# Altium integrated library National Semiconductor Switcher.IntLib: 2226 symbols (part 34 of 59)
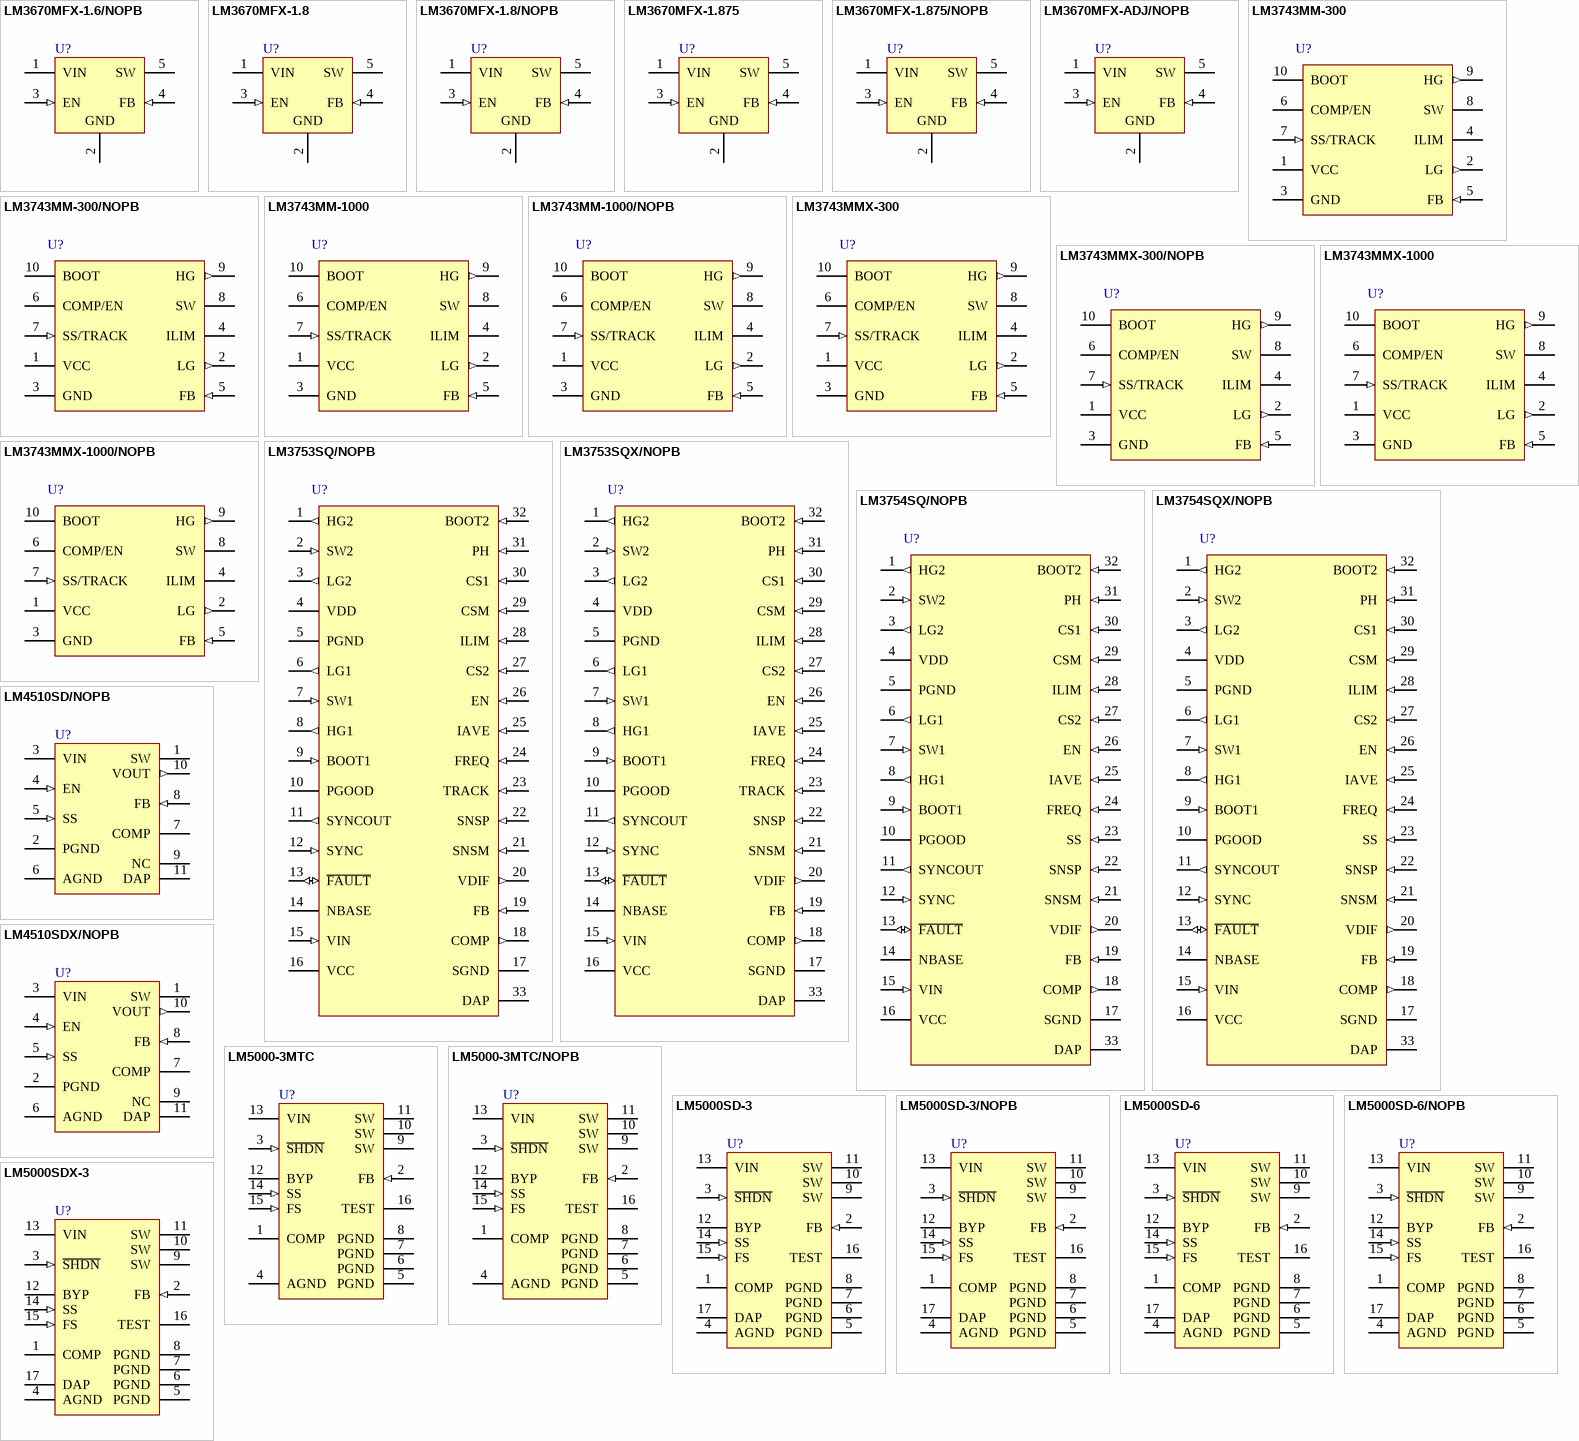
[diagram p102: symbols LM3670MFX-1.6/NOPB to LM5000SDX-3]

## LM3754SQ/NOPB
designator U?
Scalable 2-Phase Synchronous Buck Controllers with Integrated FET Drivers and Linear Regulator Controller, 32-pin LLP, Pb-Free; PartNumber: LM3754SQ/NOPB; Manufacturer: National Semiconductor; PackageTopMarking: NS*UZXYTT*LM3754; PowerWise: Y; CompType: Switcher; DatasheetVersion: Dec-2009; PackageVersion: revB, Oct-2009; PackageReference: SQA32A; PackageDescription: LLP, Quad, 5 x 5 x 0.8mm, 32 Lead, 0.5mm Pitch, No Pullback 3.1 x 3.1 Exposed Pad; RoHS: Y; PinCount: 32; High-Reliability: Y; ComponentLink1Description: Manufacturer URL; ComponentLink1URL: http://www.national.com/; ComponentLink2Description: LM3754 Datasheet; ComponentLink2URL: http://www.national.com/ds/LM/LM3754.pdf; ComponentLink3Description: LM3754 Web Page; ComponentLink3URL: http://www.national.com/pf/LM/LM3754.html; ComponentLink4Description: SQA32A Package Page; ComponentLink4URL: http://www.national.com/packaging/folders/sqa32a.html
footprint SQA32A (QFN, 32-Leads, Body 5x5mm, Pitch 0.5mm, Thermal Pad 3.2x3.2mm, NSC Recommended)
pins: 1 HG2 (out), 2 SW2 (in), 3 LG2 (out), 4 VDD (power), 5 PGND (power), 6 LG1 (out), 7 SW1 (in), 8 HG1 (out), 9 BOOT1 (in), 10 PGOOD (oc), 11 SYNCOUT (out), 12 SYNC (in), 13 ~{FAULT} (io), 14 NBASE, 15 VIN (in), 16 VCC (power), 17 SGND (power), 18 COMP (out), 19 FB (in), 20 VDIF (out), 21 SNSM (in), 22 SNSP (in), 23 SS (in), 24 FREQ (in), 25 IAVE (in), 26 EN (in), 27 CS2 (in), 28 ILIM (in), 29 CSM (in), 30 CS1 (in), 31 PH (in), 32 BOOT2 (in), 33 DAP (power)

## LM3754SQX/NOPB
designator U?
Scalable 2-Phase Synchronous Buck Controllers with Integrated FET Drivers and Linear Regulator Controller, 32-pin LLP, Pb-Free; PartNumber: LM3754SQX/NOPB; Manufacturer: National Semiconductor; PackageTopMarking: NS*UZXYTT*LM3754; PowerWise: Y; CompType: Switcher; DatasheetVersion: Dec-2009; PackageVersion: revB, Oct-2009; PackageReference: SQA32A; PackageDescription: LLP, Quad, 5 x 5 x 0.8mm, 32 Lead, 0.5mm Pitch, No Pullback 3.1 x 3.1 Exposed Pad; RoHS: Y; PinCount: 32; High-Reliability: Y; ComponentLink1Description: Manufacturer URL; ComponentLink1URL: http://www.national.com/; ComponentLink2Description: LM3754 Datasheet; ComponentLink2URL: http://www.national.com/ds/LM/LM3754.pdf; ComponentLink3Description: LM3754 Web Page; ComponentLink3URL: http://www.national.com/pf/LM/LM3754.html; ComponentLink4Description: SQA32A Package Page; ComponentLink4URL: http://www.national.com/packaging/folders/sqa32a.html
footprint SQA32A (QFN, 32-Leads, Body 5x5mm, Pitch 0.5mm, Thermal Pad 3.2x3.2mm, NSC Recommended)
pins: 1 HG2 (out), 2 SW2 (in), 3 LG2 (out), 4 VDD (power), 5 PGND (power), 6 LG1 (out), 7 SW1 (in), 8 HG1 (out), 9 BOOT1 (in), 10 PGOOD (oc), 11 SYNCOUT (out), 12 SYNC (in), 13 ~{FAULT} (io), 14 NBASE, 15 VIN (in), 16 VCC (power), 17 SGND (power), 18 COMP (out), 19 FB (in), 20 VDIF (out), 21 SNSM (in), 22 SNSP (in), 23 SS (in), 24 FREQ (in), 25 IAVE (in), 26 EN (in), 27 CS2 (in), 28 ILIM (in), 29 CSM (in), 30 CS1 (in), 31 PH (in), 32 BOOT2 (in), 33 DAP (power)

## LM4510SD/NOPB
designator U?
Synchronous Step-Up DC/DC Converter with True Shutdown Isolation, 10-pin LLP, Pb-Free; PartNumber: LM4510SD/NOPB; Manufacturer: National Semiconductor; PackageTopMarking: ZXYTT*L4510; PowerWise: Y; CompType: Switcher; DatasheetVersion: Oct-2007; PackageVersion: revA, Oct-2003; PackageReference: SDA10A; PackageDescription: LLP, Plastic, Dual, 3 x 3 x 0.8mm Body, 10 Lead, 0.5mm Pitch, No Pullback; RoHS: Y; PinCount: 10; High-Reliability: Y; ComponentLink1Description: Manufacturer URL; ComponentLink1URL: http://www.national.com/; ComponentLink2Description: LM4510 Datasheet; ComponentLink2URL: http://www.national.com/ds/LM/LM4510.pdf; ComponentLink3Description: LM4510 Web Page; ComponentLink3URL: http://www.national.com/pf/LM/LM4510.html; ComponentLink4Description: SDA10A Package Page; ComponentLink4URL: http://www.national.com/packaging/folders/sda10a.html
footprint SDA10A (SON, 10-Leads, Body 3x3 mm, Pitch 0.5mm, NSC Recommended)
pins: 1 SW (power), 2 PGND (power), 3 VIN (power), 4 EN (in), 5 SS (in), 6 AGND (power), 7 COMP, 8 FB (in), 9 NC, 10 VOUT (out), 11 DAP (power)

## LM4510SDX/NOPB
designator U?
Synchronous Step-Up DC/DC Converter with True Shutdown Isolation, 10-pin LLP, Pb-Free; PartNumber: LM4510SDX/NOPB; Manufacturer: National Semiconductor; PackageTopMarking: ZXYTT*L4510; PowerWise: Y; CompType: Switcher; DatasheetVersion: Oct-2007; PackageVersion: revA, Oct-2003; PackageReference: SDA10A; PackageDescription: LLP, Plastic, Dual, 3 x 3 x 0.8mm Body, 10 Lead, 0.5mm Pitch, No Pullback; RoHS: Y; PinCount: 10; High-Reliability: Y; ComponentLink1Description: Manufacturer URL; ComponentLink1URL: http://www.national.com/; ComponentLink2Description: LM4510 Datasheet; ComponentLink2URL: http://www.national.com/ds/LM/LM4510.pdf; ComponentLink3Description: LM4510 Web Page; ComponentLink3URL: http://www.national.com/pf/LM/LM4510.html; ComponentLink4Description: SDA10A Package Page; ComponentLink4URL: http://www.national.com/packaging/folders/sda10a.html
footprint SDA10A (SON, 10-Leads, Body 3x3 mm, Pitch 0.5mm, NSC Recommended)
pins: 1 SW (power), 2 PGND (power), 3 VIN (power), 4 EN (in), 5 SS (in), 6 AGND (power), 7 COMP, 8 FB (in), 9 NC, 10 VOUT (out), 11 DAP (power)

## LM5000-3MTC
designator U?
High Voltage Switch Mode Regulator, 16-pin TSSOP; PartNumber: LM5000-3MTC; Manufacturer: National Semiconductor; PackageTopMarking: NSZXYTT*LM5000*3MTC; PowerWise: N; CompType: Switcher; High-Reliability: Y; DatasheetVersion: Feb-2007; PackageVersion: revD, Jun-2003; PackageReference: MTC16; PackageDescription: Molded TSSOP, Jedec, 5 x 4.4 x 0.9mm Body, 16 Lead, 0.65mm Pitch; RoHS: N; PinCount: 16; Code_JEDEC: MO-153-AB; ComponentLink1Description: Manufacturer URL; ComponentLink1URL: http://www.national.com/; ComponentLink2Description: LM5000 Datasheet; ComponentLink2URL: http://www.national.com/ds/LM/LM5000.pdf; ComponentLink3Description: LM5000 Web Page; ComponentLink3URL: http://www.national.com/pf/LM/LM5000.html; ComponentLink4Description: MTC16 Package Page; ComponentLink4URL: http://www.national.com/packaging/folders/mtc16.html
footprint MTC16_N (TSOP, 16-Leads, Body 5x4.4mm, Pitch 0.65mm, IPC Medium Density)
footprint MTC16_L (TSOP, 16-Leads, Body 5x4.4mm, Pitch 0.65mm, IPC High Density)
footprint MTC16_M (TSOP, 16-Leads, Body 5x4.4mm, Pitch 0.65mm, IPC Low Density)
pins: 1 COMP, 2 FB (in), 3 ~{SHDN} (in), 4 AGND (power), 5 PGND (power), 6 PGND (power), 7 PGND (power), 8 PGND (power), 9 SW (power), 10 SW (power), 11 SW (power), 12 BYP, 13 VIN (power), 14 SS (in), 15 FS (in), 16 TEST

## LM5000-3MTC/NOPB
designator U?
High Voltage Switch Mode Regulator, 16-pin TSSOP, Pb-Free; PartNumber: LM5000-3MTC/NOPB; Manufacturer: National Semiconductor; PackageTopMarking: NSZXYTT*LM5000*3MTC; PowerWise: N; CompType: Switcher; High-Reliability: Y; DatasheetVersion: Feb-2007; PackageVersion: revD, Jun-2003; PackageReference: MTC16; PackageDescription: Molded TSSOP, Jedec, 5 x 4.4 x 0.9mm Body, 16 Lead, 0.65mm Pitch; RoHS: Y; PinCount: 16; Code_JEDEC: MO-153-AB; ComponentLink1Description: Manufacturer URL; ComponentLink1URL: http://www.national.com/; ComponentLink2Description: LM5000 Datasheet; ComponentLink2URL: http://www.national.com/ds/LM/LM5000.pdf; ComponentLink3Description: LM5000 Web Page; ComponentLink3URL: http://www.national.com/pf/LM/LM5000.html; ComponentLink4Description: MTC16 Package Page; ComponentLink4URL: http://www.national.com/packaging/folders/mtc16.html
footprint MTC16_N (TSOP, 16-Leads, Body 5x4.4mm, Pitch 0.65mm, IPC Medium Density)
footprint MTC16_L (TSOP, 16-Leads, Body 5x4.4mm, Pitch 0.65mm, IPC High Density)
footprint MTC16_M (TSOP, 16-Leads, Body 5x4.4mm, Pitch 0.65mm, IPC Low Density)
pins: 1 COMP, 2 FB (in), 3 ~{SHDN} (in), 4 AGND (power), 5 PGND (power), 6 PGND (power), 7 PGND (power), 8 PGND (power), 9 SW (power), 10 SW (power), 11 SW (power), 12 BYP, 13 VIN (power), 14 SS (in), 15 FS (in), 16 TEST

## LM5000SD-3
designator U?
High Voltage Switch Mode Regulator, 16-pin LLP; PartNumber: LM5000SD-3; Manufacturer: National Semiconductor; PackageTopMarking: NS*UZXYTT*5000-3; PowerWise: N; CompType: Switcher; High-Reliability: Y; DatasheetVersion: Feb-2007; PackageVersion: revA, May-2003; PackageReference: SDA16A; PackageDescription: LLP, Plastic, Dual, 5 x 5 x 0.8mm Body,16 Lead, 0.5mm Pitch, No Pullback; RoHS: N; PinCount: 16; ComponentLink1Description: Manufacturer URL; ComponentLink1URL: http://www.national.com/; ComponentLink2Description: LM5000 Datasheet; ComponentLink2URL: http://www.national.com/ds/LM/LM5000.pdf; ComponentLink3Description: LM5000 Web Page; ComponentLink3URL: http://www.national.com/pf/LM/LM5000.html; ComponentLink4Description: SDA16A Package Page; ComponentLink4URL: http://www.national.com/packaging/folders/sda16a.html
footprint SDA16A (SON, 16-Leads, Body 5x5mm, Pitch 0.5mm, NSC Recommended)
pins: 1 COMP, 2 FB (in), 3 ~{SHDN} (in), 4 AGND (power), 5 PGND (power), 6 PGND (power), 7 PGND (power), 8 PGND (power), 9 SW (power), 10 SW (power), 11 SW (power), 12 BYP, 13 VIN (power), 14 SS (in), 15 FS (in), 16 TEST, 17 DAP (power)

## LM5000SD-3/NOPB
designator U?
High Voltage Switch Mode Regulator, 16-pin LLP, Pb-Free; PartNumber: LM5000SD-3/NOPB; Manufacturer: National Semiconductor; PackageTopMarking: NS*UZXYTT*5000-3; PowerWise: N; CompType: Switcher; High-Reliability: Y; DatasheetVersion: Feb-2007; PackageVersion: revA, May-2003; PackageReference: SDA16A; PackageDescription: LLP, Plastic, Dual, 5 x 5 x 0.8mm Body,16 Lead, 0.5mm Pitch, No Pullback; RoHS: Y; PinCount: 16; ComponentLink1Description: Manufacturer URL; ComponentLink1URL: http://www.national.com/; ComponentLink2Description: LM5000 Datasheet; ComponentLink2URL: http://www.national.com/ds/LM/LM5000.pdf; ComponentLink3Description: LM5000 Web Page; ComponentLink3URL: http://www.national.com/pf/LM/LM5000.html; ComponentLink4Description: SDA16A Package Page; ComponentLink4URL: http://www.national.com/packaging/folders/sda16a.html
footprint SDA16A (SON, 16-Leads, Body 5x5mm, Pitch 0.5mm, NSC Recommended)
pins: 1 COMP, 2 FB (in), 3 ~{SHDN} (in), 4 AGND (power), 5 PGND (power), 6 PGND (power), 7 PGND (power), 8 PGND (power), 9 SW (power), 10 SW (power), 11 SW (power), 12 BYP, 13 VIN (power), 14 SS (in), 15 FS (in), 16 TEST, 17 DAP (power)

## LM5000SD-6
designator U?
High Voltage Switch Mode Regulator, 16-pin LLP; PartNumber: LM5000SD-6; Manufacturer: National Semiconductor; PackageTopMarking: NS*UZXYTT*5000-6; PowerWise: N; CompType: Switcher; High-Reliability: Y; DatasheetVersion: Feb-2007; PackageVersion: revA, May-2003; PackageReference: SDA16A; PackageDescription: LLP, Plastic, Dual, 5 x 5 x 0.8mm Body,16 Lead, 0.5mm Pitch, No Pullback; RoHS: N; PinCount: 16; ComponentLink1Description: Manufacturer URL; ComponentLink1URL: http://www.national.com/; ComponentLink2Description: LM5000 Datasheet; ComponentLink2URL: http://www.national.com/ds/LM/LM5000.pdf; ComponentLink3Description: LM5000 Web Page; ComponentLink3URL: http://www.national.com/pf/LM/LM5000.html; ComponentLink4Description: SDA16A Package Page; ComponentLink4URL: http://www.national.com/packaging/folders/sda16a.html
footprint SDA16A (SON, 16-Leads, Body 5x5mm, Pitch 0.5mm, NSC Recommended)
pins: 1 COMP, 2 FB (in), 3 ~{SHDN} (in), 4 AGND (power), 5 PGND (power), 6 PGND (power), 7 PGND (power), 8 PGND (power), 9 SW (power), 10 SW (power), 11 SW (power), 12 BYP, 13 VIN (power), 14 SS (in), 15 FS (in), 16 TEST, 17 DAP (power)

## LM5000SD-6/NOPB
designator U?
High Voltage Switch Mode Regulator, 16-pin LLP, Pb-Free; PartNumber: LM5000SD-6/NOPB; Manufacturer: National Semiconductor; PackageTopMarking: NS*UZXYTT*5000-6; PowerWise: N; CompType: Switcher; High-Reliability: Y; DatasheetVersion: Feb-2007; PackageVersion: revA, May-2003; PackageReference: SDA16A; PackageDescription: LLP, Plastic, Dual, 5 x 5 x 0.8mm Body,16 Lead, 0.5mm Pitch, No Pullback; RoHS: Y; PinCount: 16; ComponentLink1Description: Manufacturer URL; ComponentLink1URL: http://www.national.com/; ComponentLink2Description: LM5000 Datasheet; ComponentLink2URL: http://www.national.com/ds/LM/LM5000.pdf; ComponentLink3Description: LM5000 Web Page; ComponentLink3URL: http://www.national.com/pf/LM/LM5000.html; ComponentLink4Description: SDA16A Package Page; ComponentLink4URL: http://www.national.com/packaging/folders/sda16a.html
footprint SDA16A (SON, 16-Leads, Body 5x5mm, Pitch 0.5mm, NSC Recommended)
pins: 1 COMP, 2 FB (in), 3 ~{SHDN} (in), 4 AGND (power), 5 PGND (power), 6 PGND (power), 7 PGND (power), 8 PGND (power), 9 SW (power), 10 SW (power), 11 SW (power), 12 BYP, 13 VIN (power), 14 SS (in), 15 FS (in), 16 TEST, 17 DAP (power)

## LM5000SDX-3
designator U?
High Voltage Switch Mode Regulator, 16-pin LLP; PartNumber: LM5000SDX-3; Manufacturer: National Semiconductor; PackageTopMarking: NS*UZXYTT*5000-3; PowerWise: N; CompType: Switcher; High-Reliability: Y; DatasheetVersion: Feb-2007; PackageVersion: revA, May-2003; PackageReference: SDA16A; PackageDescription: LLP, Plastic, Dual, 5 x 5 x 0.8mm Body,16 Lead, 0.5mm Pitch, No Pullback; RoHS: N; PinCount: 16; ComponentLink1Description: Manufacturer URL; ComponentLink1URL: http://www.national.com/; ComponentLink2Description: LM5000 Datasheet; ComponentLink2URL: http://www.national.com/ds/LM/LM5000.pdf; ComponentLink3Description: LM5000 Web Page; ComponentLink3URL: http://www.national.com/pf/LM/LM5000.html; ComponentLink4Description: SDA16A Package Page; ComponentLink4URL: http://www.national.com/packaging/folders/sda16a.html
footprint SDA16A (SON, 16-Leads, Body 5x5mm, Pitch 0.5mm, NSC Recommended)
pins: 1 COMP, 2 FB (in), 3 ~{SHDN} (in), 4 AGND (power), 5 PGND (power), 6 PGND (power), 7 PGND (power), 8 PGND (power), 9 SW (power), 10 SW (power), 11 SW (power), 12 BYP, 13 VIN (power), 14 SS (in), 15 FS (in), 16 TEST, 17 DAP (power)

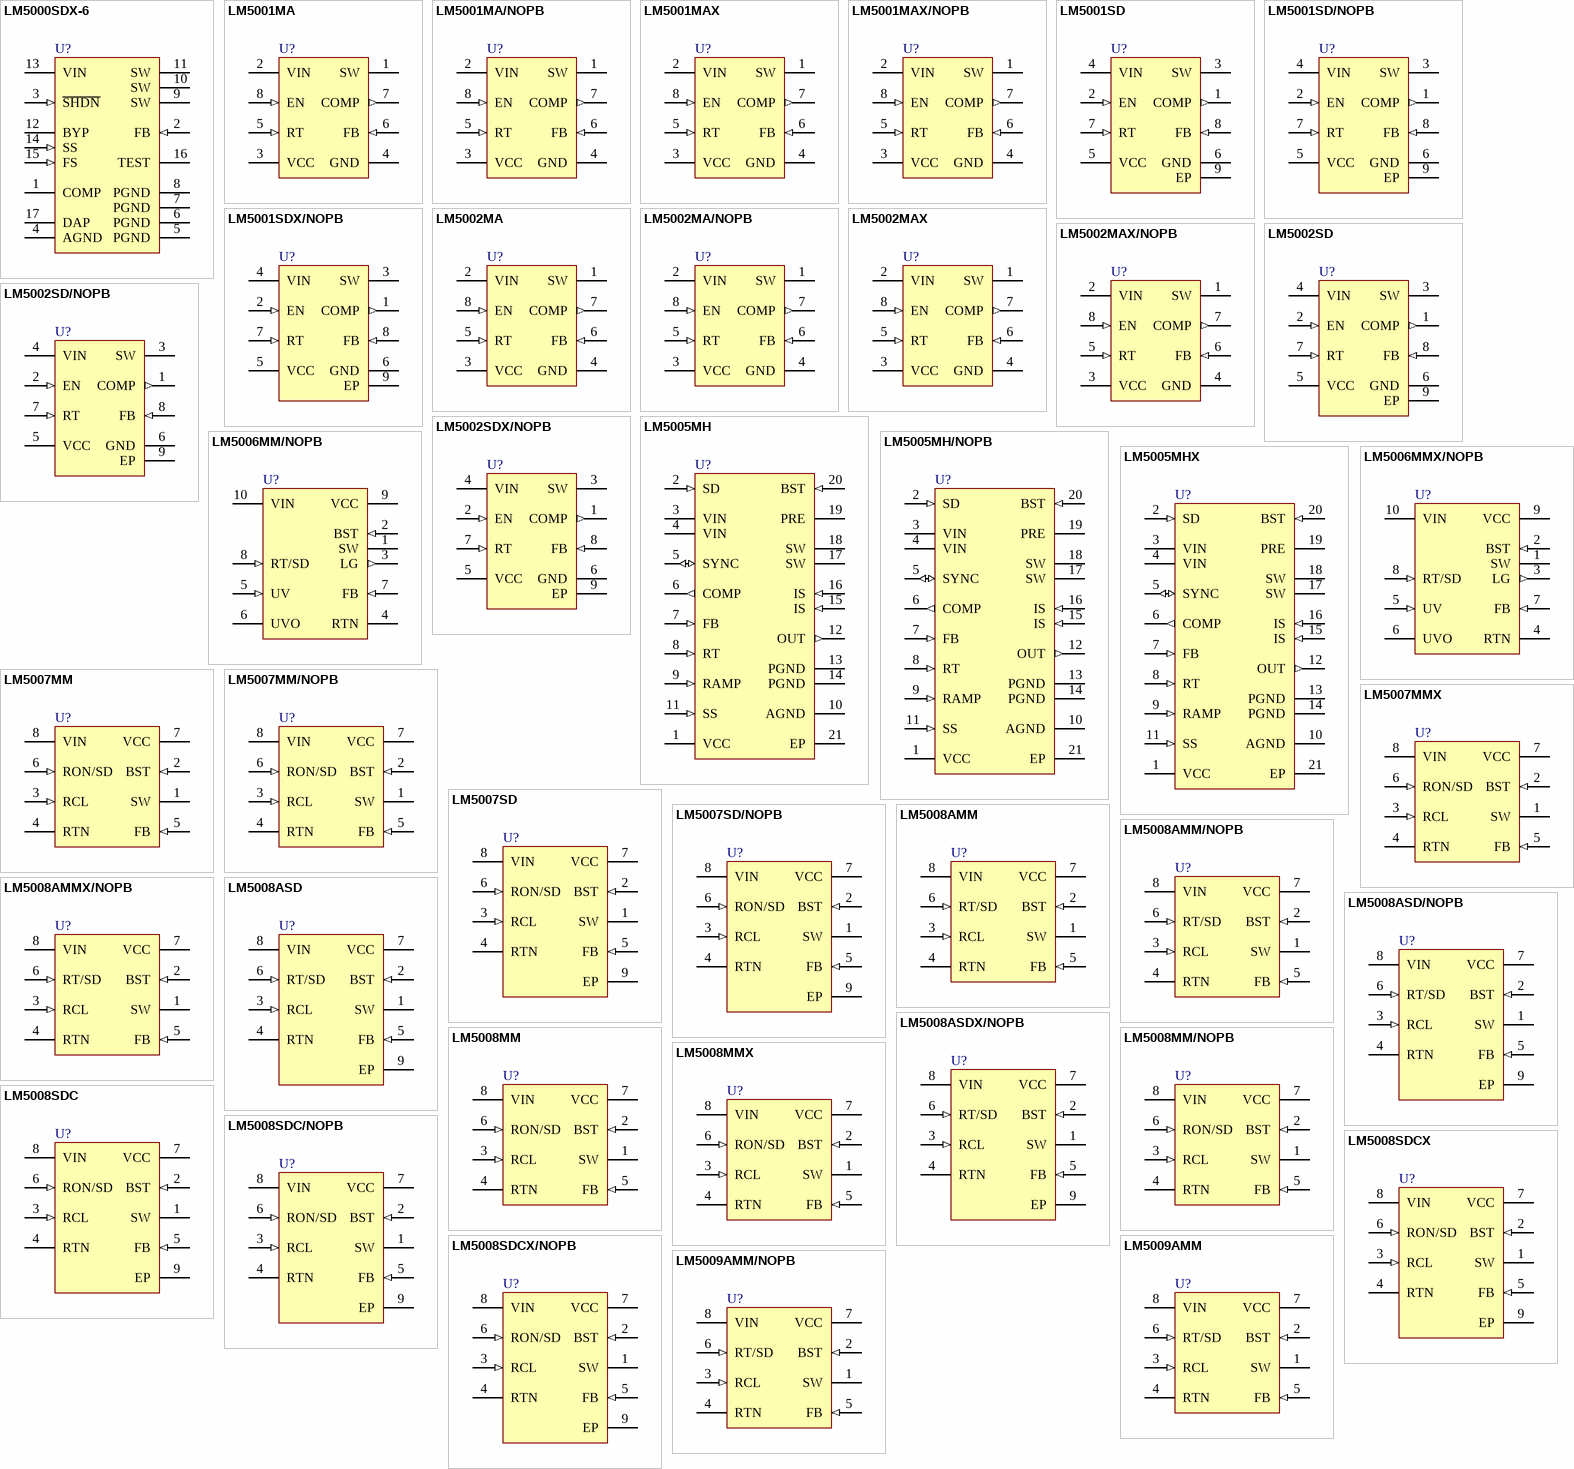
[diagram p37: symbols LM5000SDX-6 to LM5009AMM/NOPB]

## LM5000SDX-6
designator U?
High Voltage Switch Mode Regulator, 16-pin LLP; PartNumber: LM5000SDX-6; Manufacturer: National Semiconductor; PackageTopMarking: NS*UZXYTT*5000-6; PowerWise: N; CompType: Switcher; High-Reliability: Y; DatasheetVersion: Feb-2007; PackageVersion: revA, May-2003; PackageReference: SDA16A; PackageDescription: LLP, Plastic, Dual, 5 x 5 x 0.8mm Body,16 Lead, 0.5mm Pitch, No Pullback; RoHS: N; PinCount: 16; ComponentLink1Description: Manufacturer URL; ComponentLink1URL: http://www.national.com/; ComponentLink2Description: LM5000 Datasheet; ComponentLink2URL: http://www.national.com/ds/LM/LM5000.pdf; ComponentLink3Description: LM5000 Web Page; ComponentLink3URL: http://www.national.com/pf/LM/LM5000.html; ComponentLink4Description: SDA16A Package Page; ComponentLink4URL: http://www.national.com/packaging/folders/sda16a.html
footprint SDA16A (SON, 16-Leads, Body 5x5mm, Pitch 0.5mm, NSC Recommended)
pins: 1 COMP, 2 FB (in), 3 ~{SHDN} (in), 4 AGND (power), 5 PGND (power), 6 PGND (power), 7 PGND (power), 8 PGND (power), 9 SW (power), 10 SW (power), 11 SW (power), 12 BYP, 13 VIN (power), 14 SS (in), 15 FS (in), 16 TEST, 17 DAP (power)

## LM5001MA
designator U?
High Voltage Switch Mode Regulator, 8-pin Narrow SOIC; PartNumber: LM5001MA; Manufacturer: National Semiconductor; PackageTopMarking: NSZXTT*L5001*MA; PowerWise: N; CompType: Switcher; High-Reliability: Y; DatasheetVersion: Mar-2009; PackageVersion: revM, May-2009; PackageReference: M08A; PackageDescription: SOIC Narrow, 4.9 x 3.9 x 1.45mm, 8 Lead, 1.27mm Pitch; RoHS: N; PinCount: 8; Code_JEDEC: MS-012-AA; Code_IPC: SOIC127P600-8; ComponentLink1Description: Manufacturer URL; ComponentLink1URL: http://www.national.com/; ComponentLink2Description: LM5001 Datasheet; ComponentLink2URL: http://www.national.com/ds/LM/LM5001.pdf; ComponentLink3Description: LM5001 Web Page; ComponentLink3URL: http://www.national.com/pf/LM/LM5001.html; ComponentLink4Description: M08A Package Page; ComponentLink4URL: http://www.national.com/packaging/folders/m08a.html
footprint M08A_N (SOIC, 8-Leads, Body 4.9x3.9mm, Pitch 1.27mm, IPC Medium Density)
footprint M08A_L (SOIC, 8-Leads, Body 4.9x3.9mm, Pitch 1.27mm, IPC High Density)
footprint M08A_M (SOIC, 8-Leads, Body 4.9x3.9mm, Pitch 1.27mm, IPC Low Density)
pins: 1 SW (power), 2 VIN (power), 3 VCC (power), 4 GND (power), 5 RT (in), 6 FB (in), 7 COMP (out), 8 EN (in)

## LM5001MA/NOPB
designator U?
High Voltage Switch Mode Regulator, 8-pin Narrow SOIC, Pb-Free; PartNumber: LM5001MA/NOPB; Manufacturer: National Semiconductor; PackageTopMarking: NSZXTT*L5001*MA; PowerWise: N; CompType: Switcher; High-Reliability: Y; DatasheetVersion: Mar-2009; PackageVersion: revM, May-2009; PackageReference: M08A; PackageDescription: SOIC Narrow, 4.9 x 3.9 x 1.45mm, 8 Lead, 1.27mm Pitch; RoHS: Y; PinCount: 8; Code_JEDEC: MS-012-AA; Code_IPC: SOIC127P600-8; ComponentLink1Description: Manufacturer URL; ComponentLink1URL: http://www.national.com/; ComponentLink2Description: LM5001 Datasheet; ComponentLink2URL: http://www.national.com/ds/LM/LM5001.pdf; ComponentLink3Description: LM5001 Web Page; ComponentLink3URL: http://www.national.com/pf/LM/LM5001.html; ComponentLink4Description: M08A Package Page; ComponentLink4URL: http://www.national.com/packaging/folders/m08a.html
footprint M08A_N (SOIC, 8-Leads, Body 4.9x3.9mm, Pitch 1.27mm, IPC Medium Density)
footprint M08A_L (SOIC, 8-Leads, Body 4.9x3.9mm, Pitch 1.27mm, IPC High Density)
footprint M08A_M (SOIC, 8-Leads, Body 4.9x3.9mm, Pitch 1.27mm, IPC Low Density)
pins: 1 SW (power), 2 VIN (power), 3 VCC (power), 4 GND (power), 5 RT (in), 6 FB (in), 7 COMP (out), 8 EN (in)

## LM5001MAX
designator U?
High Voltage Switch Mode Regulator, 8-pin Narrow SOIC; PartNumber: LM5001MAX; Manufacturer: National Semiconductor; PackageTopMarking: NSZXTT*L5001*MA; PowerWise: N; CompType: Switcher; High-Reliability: Y; DatasheetVersion: Mar-2009; PackageVersion: revM, May-2009; PackageReference: M08A; PackageDescription: SOIC Narrow, 4.9 x 3.9 x 1.45mm, 8 Lead, 1.27mm Pitch; RoHS: N; PinCount: 8; Code_JEDEC: MS-012-AA; Code_IPC: SOIC127P600-8; ComponentLink1Description: Manufacturer URL; ComponentLink1URL: http://www.national.com/; ComponentLink2Description: LM5001 Datasheet; ComponentLink2URL: http://www.national.com/ds/LM/LM5001.pdf; ComponentLink3Description: LM5001 Web Page; ComponentLink3URL: http://www.national.com/pf/LM/LM5001.html; ComponentLink4Description: M08A Package Page; ComponentLink4URL: http://www.national.com/packaging/folders/m08a.html
footprint M08A_N (SOIC, 8-Leads, Body 4.9x3.9mm, Pitch 1.27mm, IPC Medium Density)
footprint M08A_L (SOIC, 8-Leads, Body 4.9x3.9mm, Pitch 1.27mm, IPC High Density)
footprint M08A_M (SOIC, 8-Leads, Body 4.9x3.9mm, Pitch 1.27mm, IPC Low Density)
pins: 1 SW (power), 2 VIN (power), 3 VCC (power), 4 GND (power), 5 RT (in), 6 FB (in), 7 COMP (out), 8 EN (in)

## LM5001MAX/NOPB
designator U?
High Voltage Switch Mode Regulator, 8-pin Narrow SOIC, Pb-Free; PartNumber: LM5001MAX/NOPB; Manufacturer: National Semiconductor; PackageTopMarking: NSZXTT*L5001*MA; PowerWise: N; CompType: Switcher; High-Reliability: Y; DatasheetVersion: Mar-2009; PackageVersion: revM, May-2009; PackageReference: M08A; PackageDescription: SOIC Narrow, 4.9 x 3.9 x 1.45mm, 8 Lead, 1.27mm Pitch; RoHS: Y; PinCount: 8; Code_JEDEC: MS-012-AA; Code_IPC: SOIC127P600-8; ComponentLink1Description: Manufacturer URL; ComponentLink1URL: http://www.national.com/; ComponentLink2Description: LM5001 Datasheet; ComponentLink2URL: http://www.national.com/ds/LM/LM5001.pdf; ComponentLink3Description: LM5001 Web Page; ComponentLink3URL: http://www.national.com/pf/LM/LM5001.html; ComponentLink4Description: M08A Package Page; ComponentLink4URL: http://www.national.com/packaging/folders/m08a.html
footprint M08A_N (SOIC, 8-Leads, Body 4.9x3.9mm, Pitch 1.27mm, IPC Medium Density)
footprint M08A_L (SOIC, 8-Leads, Body 4.9x3.9mm, Pitch 1.27mm, IPC High Density)
footprint M08A_M (SOIC, 8-Leads, Body 4.9x3.9mm, Pitch 1.27mm, IPC Low Density)
pins: 1 SW (power), 2 VIN (power), 3 VCC (power), 4 GND (power), 5 RT (in), 6 FB (in), 7 COMP (out), 8 EN (in)

## LM5001SD
designator U?
High Voltage Switch Mode Regulator, 8-pin LLP; PartNumber: LM5001SD; Manufacturer: National Semiconductor; PackageTopMarking: NS*UZXYTT*LM5001; PowerWise: N; CompType: Switcher; High-Reliability: Y; DatasheetVersion: Mar-2009; PackageVersion: revA, Jun-2003; PackageReference: SDC08A; PackageDescription: LLP, Plastic, Dual, 4 x 4 x 0.8mm Body, 8 Lead, 0.8mm Pitch, No Pullback; RoHS: Y; PinCount: 8; ComponentLink1Description: Manufacturer URL; ComponentLink1URL: http://www.national.com/; ComponentLink2Description: LM5001 Datasheet; ComponentLink2URL: http://www.national.com/ds/LM/LM5001.pdf; ComponentLink3Description: LM5001 Web Page; ComponentLink3URL: http://www.national.com/pf/LM/LM5001.html; ComponentLink4Description: SDC08A Package Page; ComponentLink4URL: http://www.national.com/packaging/folders/sdc08a.html
footprint SDC08A (SON, 8-Leads, Body 4x4mm, Pitch 0.8mm, NSC Recommended)
pins: 1 COMP (out), 2 EN (in), 3 SW (power), 4 VIN (power), 5 VCC (power), 6 GND (power), 7 RT (in), 8 FB (in), 9 EP (power)

## LM5001SD/NOPB
designator U?
High Voltage Switch Mode Regulator, 8-pin LLP, Pb-Free; PartNumber: LM5001SD/NOPB; Manufacturer: National Semiconductor; PackageTopMarking: NS*UZXYTT*LM5001; PowerWise: N; CompType: Switcher; High-Reliability: Y; DatasheetVersion: Mar-2009; PackageVersion: revA, Jun-2003; PackageReference: SDC08A; PackageDescription: LLP, Plastic, Dual, 4 x 4 x 0.8mm Body, 8 Lead, 0.8mm Pitch, No Pullback; RoHS: Y; PinCount: 8; ComponentLink1Description: Manufacturer URL; ComponentLink1URL: http://www.national.com/; ComponentLink2Description: LM5001 Datasheet; ComponentLink2URL: http://www.national.com/ds/LM/LM5001.pdf; ComponentLink3Description: LM5001 Web Page; ComponentLink3URL: http://www.national.com/pf/LM/LM5001.html; ComponentLink4Description: SDC08A Package Page; ComponentLink4URL: http://www.national.com/packaging/folders/sdc08a.html
footprint SDC08A (SON, 8-Leads, Body 4x4mm, Pitch 0.8mm, NSC Recommended)
pins: 1 COMP (out), 2 EN (in), 3 SW (power), 4 VIN (power), 5 VCC (power), 6 GND (power), 7 RT (in), 8 FB (in), 9 EP (power)

## LM5001SDX/NOPB
designator U?
High Voltage Switch Mode Regulator, 8-pin LLP, Pb-Free; PartNumber: LM5001SDX/NOPB; Manufacturer: National Semiconductor; PackageTopMarking: NS*UZXYTT*LM5001; PowerWise: N; CompType: Switcher; High-Reliability: Y; DatasheetVersion: Mar-2009; PackageVersion: revA, Jun-2003; PackageReference: SDC08A; PackageDescription: LLP, Plastic, Dual, 4 x 4 x 0.8mm Body, 8 Lead, 0.8mm Pitch, No Pullback; RoHS: Y; PinCount: 8; ComponentLink1Description: Manufacturer URL; ComponentLink1URL: http://www.national.com/; ComponentLink2Description: LM5001 Datasheet; ComponentLink2URL: http://www.national.com/ds/LM/LM5001.pdf; ComponentLink3Description: LM5001 Web Page; ComponentLink3URL: http://www.national.com/pf/LM/LM5001.html; ComponentLink4Description: SDC08A Package Page; ComponentLink4URL: http://www.national.com/packaging/folders/sdc08a.html
footprint SDC08A (SON, 8-Leads, Body 4x4mm, Pitch 0.8mm, NSC Recommended)
pins: 1 COMP (out), 2 EN (in), 3 SW (power), 4 VIN (power), 5 VCC (power), 6 GND (power), 7 RT (in), 8 FB (in), 9 EP (power)

## LM5002MA
designator U?
High Voltage Switch Mode Regulator, 8-pin Narrow SOIC; PartNumber: LM5002MA; Manufacturer: National Semiconductor; PackageTopMarking: NSZXTT*L5002*MA; PowerWise: N; CompType: Switcher; High-Reliability: Y; DatasheetVersion: Mar-2009; PackageVersion: revM, May-2009; PackageReference: M08A; PackageDescription: SOIC Narrow, 4.9 x 3.9 x 1.45mm, 8 Lead, 1.27mm Pitch; RoHS: N; PinCount: 8; Code_JEDEC: MS-012-AA; Code_IPC: SOIC127P600-8; ComponentLink1Description: Manufacturer URL; ComponentLink1URL: http://www.national.com/; ComponentLink2Description: LM5002 Datasheet; ComponentLink2URL: http://www.national.com/ds/LM/LM5002.pdf; ComponentLink3Description: LM5002 Web Page; ComponentLink3URL: http://www.national.com/pf/LM/LM5002.html; ComponentLink4Description: M08A Package Page; ComponentLink4URL: http://www.national.com/packaging/folders/m08a.html
footprint M08A_N (SOIC, 8-Leads, Body 4.9x3.9mm, Pitch 1.27mm, IPC Medium Density)
footprint M08A_L (SOIC, 8-Leads, Body 4.9x3.9mm, Pitch 1.27mm, IPC High Density)
footprint M08A_M (SOIC, 8-Leads, Body 4.9x3.9mm, Pitch 1.27mm, IPC Low Density)
pins: 1 SW (power), 2 VIN (power), 3 VCC (power), 4 GND (power), 5 RT (in), 6 FB (in), 7 COMP (out), 8 EN (in)

## LM5002MA/NOPB
designator U?
High Voltage Switch Mode Regulator, 8-pin Narrow SOIC, Pb-Free; PartNumber: LM5002MA/NOPB; Manufacturer: National Semiconductor; PackageTopMarking: NSZXTT*L5002*MA; PowerWise: N; CompType: Switcher; High-Reliability: Y; DatasheetVersion: Mar-2009; PackageVersion: revM, May-2009; PackageReference: M08A; PackageDescription: SOIC Narrow, 4.9 x 3.9 x 1.45mm, 8 Lead, 1.27mm Pitch; RoHS: Y; PinCount: 8; Code_JEDEC: MS-012-AA; Code_IPC: SOIC127P600-8; ComponentLink1Description: Manufacturer URL; ComponentLink1URL: http://www.national.com/; ComponentLink2Description: LM5002 Datasheet; ComponentLink2URL: http://www.national.com/ds/LM/LM5002.pdf; ComponentLink3Description: LM5002 Web Page; ComponentLink3URL: http://www.national.com/pf/LM/LM5002.html; ComponentLink4Description: M08A Package Page; ComponentLink4URL: http://www.national.com/packaging/folders/m08a.html
footprint M08A_N (SOIC, 8-Leads, Body 4.9x3.9mm, Pitch 1.27mm, IPC Medium Density)
footprint M08A_L (SOIC, 8-Leads, Body 4.9x3.9mm, Pitch 1.27mm, IPC High Density)
footprint M08A_M (SOIC, 8-Leads, Body 4.9x3.9mm, Pitch 1.27mm, IPC Low Density)
pins: 1 SW (power), 2 VIN (power), 3 VCC (power), 4 GND (power), 5 RT (in), 6 FB (in), 7 COMP (out), 8 EN (in)

## LM5002MAX
designator U?
High Voltage Switch Mode Regulator, 8-pin Narrow SOIC; PartNumber: LM5002MAX; Manufacturer: National Semiconductor; PackageTopMarking: NSZXTT*L5002*MA; PowerWise: N; CompType: Switcher; High-Reliability: Y; DatasheetVersion: Mar-2009; PackageVersion: revM, May-2009; PackageReference: M08A; PackageDescription: SOIC Narrow, 4.9 x 3.9 x 1.45mm, 8 Lead, 1.27mm Pitch; RoHS: N; PinCount: 8; Code_JEDEC: MS-012-AA; Code_IPC: SOIC127P600-8; ComponentLink1Description: Manufacturer URL; ComponentLink1URL: http://www.national.com/; ComponentLink2Description: LM5002 Datasheet; ComponentLink2URL: http://www.national.com/ds/LM/LM5002.pdf; ComponentLink3Description: LM5002 Web Page; ComponentLink3URL: http://www.national.com/pf/LM/LM5002.html; ComponentLink4Description: M08A Package Page; ComponentLink4URL: http://www.national.com/packaging/folders/m08a.html
footprint M08A_N (SOIC, 8-Leads, Body 4.9x3.9mm, Pitch 1.27mm, IPC Medium Density)
footprint M08A_L (SOIC, 8-Leads, Body 4.9x3.9mm, Pitch 1.27mm, IPC High Density)
footprint M08A_M (SOIC, 8-Leads, Body 4.9x3.9mm, Pitch 1.27mm, IPC Low Density)
pins: 1 SW (power), 2 VIN (power), 3 VCC (power), 4 GND (power), 5 RT (in), 6 FB (in), 7 COMP (out), 8 EN (in)

## LM5002MAX/NOPB
designator U?
High Voltage Switch Mode Regulator, 8-pin Narrow SOIC, Pb-Free; PartNumber: LM5002MAX/NOPB; Manufacturer: National Semiconductor; PackageTopMarking: NSZXTT*L5002*MA; PowerWise: N; CompType: Switcher; High-Reliability: Y; DatasheetVersion: Mar-2009; PackageVersion: revM, May-2009; PackageReference: M08A; PackageDescription: SOIC Narrow, 4.9 x 3.9 x 1.45mm, 8 Lead, 1.27mm Pitch; RoHS: Y; PinCount: 8; Code_JEDEC: MS-012-AA; Code_IPC: SOIC127P600-8; ComponentLink1Description: Manufacturer URL; ComponentLink1URL: http://www.national.com/; ComponentLink2Description: LM5002 Datasheet; ComponentLink2URL: http://www.national.com/ds/LM/LM5002.pdf; ComponentLink3Description: LM5002 Web Page; ComponentLink3URL: http://www.national.com/pf/LM/LM5002.html; ComponentLink4Description: M08A Package Page; ComponentLink4URL: http://www.national.com/packaging/folders/m08a.html
footprint M08A_N (SOIC, 8-Leads, Body 4.9x3.9mm, Pitch 1.27mm, IPC Medium Density)
footprint M08A_L (SOIC, 8-Leads, Body 4.9x3.9mm, Pitch 1.27mm, IPC High Density)
footprint M08A_M (SOIC, 8-Leads, Body 4.9x3.9mm, Pitch 1.27mm, IPC Low Density)
pins: 1 SW (power), 2 VIN (power), 3 VCC (power), 4 GND (power), 5 RT (in), 6 FB (in), 7 COMP (out), 8 EN (in)

## LM5002SD
designator U?
High Voltage Switch Mode Regulator, 8-pin LLP; PartNumber: LM5002SD; Manufacturer: National Semiconductor; PackageTopMarking: NS*UZXYTT*LM5002; PowerWise: N; CompType: Switcher; High-Reliability: Y; DatasheetVersion: Mar-2009; PackageVersion: revA, Jun-2003; PackageReference: SDC08A; PackageDescription: LLP, Plastic, Dual, 4 x 4 x 0.8mm Body, 8 Lead, 0.8mm Pitch, No Pullback; RoHS: Y; PinCount: 8; ComponentLink1Description: Manufacturer URL; ComponentLink1URL: http://www.national.com/; ComponentLink2Description: LM5002 Datasheet; ComponentLink2URL: http://www.national.com/ds/LM/LM5002.pdf; ComponentLink3Description: LM5002 Web Page; ComponentLink3URL: http://www.national.com/pf/LM/LM5002.html; ComponentLink4Description: SDC08A Package Page; ComponentLink4URL: http://www.national.com/packaging/folders/sdc08a.html
footprint SDC08A (SON, 8-Leads, Body 4x4mm, Pitch 0.8mm, NSC Recommended)
pins: 1 COMP (out), 2 EN (in), 3 SW (power), 4 VIN (power), 5 VCC (power), 6 GND (power), 7 RT (in), 8 FB (in), 9 EP (power)

## LM5002SD/NOPB
designator U?
High Voltage Switch Mode Regulator, 8-pin LLP, Pb-Free; PartNumber: LM5002SD/NOPB; Manufacturer: National Semiconductor; PackageTopMarking: NS*UZXYTT*LM5002; PowerWise: N; CompType: Switcher; High-Reliability: Y; DatasheetVersion: Mar-2009; PackageVersion: revA, Jun-2003; PackageReference: SDC08A; PackageDescription: LLP, Plastic, Dual, 4 x 4 x 0.8mm Body, 8 Lead, 0.8mm Pitch, No Pullback; RoHS: Y; PinCount: 8; ComponentLink1Description: Manufacturer URL; ComponentLink1URL: http://www.national.com/; ComponentLink2Description: LM5002 Datasheet; ComponentLink2URL: http://www.national.com/ds/LM/LM5002.pdf; ComponentLink3Description: LM5002 Web Page; ComponentLink3URL: http://www.national.com/pf/LM/LM5002.html; ComponentLink4Description: SDC08A Package Page; ComponentLink4URL: http://www.national.com/packaging/folders/sdc08a.html
footprint SDC08A (SON, 8-Leads, Body 4x4mm, Pitch 0.8mm, NSC Recommended)
pins: 1 COMP (out), 2 EN (in), 3 SW (power), 4 VIN (power), 5 VCC (power), 6 GND (power), 7 RT (in), 8 FB (in), 9 EP (power)

## LM5002SDX/NOPB
designator U?
High Voltage Switch Mode Regulator, 8-pin LLP, Pb-Free; PartNumber: LM5002SDX/NOPB; Manufacturer: National Semiconductor; PackageTopMarking: NS*UZXYTT*LM5002; PowerWise: N; CompType: Switcher; High-Reliability: Y; DatasheetVersion: Mar-2009; PackageVersion: revA, Jun-2003; PackageReference: SDC08A; PackageDescription: LLP, Plastic, Dual, 4 x 4 x 0.8mm Body, 8 Lead, 0.8mm Pitch, No Pullback; RoHS: Y; PinCount: 8; ComponentLink1Description: Manufacturer URL; ComponentLink1URL: http://www.national.com/; ComponentLink2Description: LM5002 Datasheet; ComponentLink2URL: http://www.national.com/ds/LM/LM5002.pdf; ComponentLink3Description: LM5002 Web Page; ComponentLink3URL: http://www.national.com/pf/LM/LM5002.html; ComponentLink4Description: SDC08A Package Page; ComponentLink4URL: http://www.national.com/packaging/folders/sdc08a.html
footprint SDC08A (SON, 8-Leads, Body 4x4mm, Pitch 0.8mm, NSC Recommended)
pins: 1 COMP (out), 2 EN (in), 3 SW (power), 4 VIN (power), 5 VCC (power), 6 GND (power), 7 RT (in), 8 FB (in), 9 EP (power)

## LM5005MH
designator U?
High Voltage 2.5 Amp Buck Regulator, 20-pin TSSOP-EP; PartNumber: LM5005MH; Manufacturer: National Semiconductor; PackageTopMarking: NSUZXYTT*LM5005*MH; PowerWise: N; CompType: Switcher; High-Reliability: Y; DatasheetVersion: Mar-2006; PackageVersion: revC, Jul-2006; PackageReference: MXA20A; PackageDescription: Molded TSSOP, Jedec, 6.5 x 4.4 x 0.9mm Body, 20 Lead, 0.65mm Pitch, Exposed Pad; RoHS: N; PinCount: 20; Code_JEDEC: MO-153-ACT; ComponentLink1Description: Manufacturer URL; ComponentLink1URL: http://www.national.com/; ComponentLink2Description: LM5005 Datasheet; ComponentLink2URL: http://www.national.com/ds/LM/LM5005.pdf; ComponentLink3Description: LM5005 Web Page; ComponentLink3URL: http://www.national.com/pf/LM/LM5005.html; ComponentLink4Description: MXA20A Package Page; ComponentLink4URL: http://www.national.com/packaging/folders/mxa20a.html
footprint MXA20A_N (TSOP, 20-Leads, Body 6.5x4.4mm, Pitch 0.65mm, Thermal Pad, IPC Medium Density)
footprint MXA20A_L (TSOP, 20-Leads, Body 6.5x4.4mm, Pitch 0.65mm, Thermal Pad, IPC High Density)
footprint MXA20A_M (TSOP, 20-Leads, Body 6.5x4.4mm, Pitch 0.65mm, Thermal Pad, IPC Low Density)
pins: 1 VCC (power), 2 SD (in), 3 VIN (power), 4 VIN (power), 5 SYNC (io), 6 COMP (out), 7 FB (in), 8 RT (in), 9 RAMP (in), 10 AGND (power), 11 SS (in), 12 OUT (out), 13 PGND (power), 14 PGND (power), 15 IS (in), 16 IS (in), 17 SW (power), 18 SW (power), 19 PRE (oc), 20 BST (in), 21 EP (power)

## LM5005MH/NOPB
designator U?
High Voltage 2.5 Amp Buck Regulator, 20-pin TSSOP-EP, Pb-Free; PartNumber: LM5005MH/NOPB; Manufacturer: National Semiconductor; PackageTopMarking: NSUZXYTT*LM5005*MH; PowerWise: N; CompType: Switcher; High-Reliability: Y; DatasheetVersion: Mar-2006; PackageVersion: revC, Jul-2006; PackageReference: MXA20A; PackageDescription: Molded TSSOP, Jedec, 6.5 x 4.4 x 0.9mm Body, 20 Lead, 0.65mm Pitch, Exposed Pad; RoHS: Y; PinCount: 20; Code_JEDEC: MO-153-ACT; ComponentLink1Description: Manufacturer URL; ComponentLink1URL: http://www.national.com/; ComponentLink2Description: LM5005 Datasheet; ComponentLink2URL: http://www.national.com/ds/LM/LM5005.pdf; ComponentLink3Description: LM5005 Web Page; ComponentLink3URL: http://www.national.com/pf/LM/LM5005.html; ComponentLink4Description: MXA20A Package Page; ComponentLink4URL: http://www.national.com/packaging/folders/mxa20a.html
footprint MXA20A_N (TSOP, 20-Leads, Body 6.5x4.4mm, Pitch 0.65mm, Thermal Pad, IPC Medium Density)
footprint MXA20A_L (TSOP, 20-Leads, Body 6.5x4.4mm, Pitch 0.65mm, Thermal Pad, IPC High Density)
footprint MXA20A_M (TSOP, 20-Leads, Body 6.5x4.4mm, Pitch 0.65mm, Thermal Pad, IPC Low Density)
pins: 1 VCC (power), 2 SD (in), 3 VIN (power), 4 VIN (power), 5 SYNC (io), 6 COMP (out), 7 FB (in), 8 RT (in), 9 RAMP (in), 10 AGND (power), 11 SS (in), 12 OUT (out), 13 PGND (power), 14 PGND (power), 15 IS (in), 16 IS (in), 17 SW (power), 18 SW (power), 19 PRE (oc), 20 BST (in), 21 EP (power)

## LM5005MHX
designator U?
High Voltage 2.5 Amp Buck Regulator, 20-pin TSSOP-EP; PartNumber: LM5005MHX; Manufacturer: National Semiconductor; PackageTopMarking: NSUZXYTT*LM5005*MH; PowerWise: N; CompType: Switcher; High-Reliability: Y; DatasheetVersion: Mar-2006; PackageVersion: revC, Jul-2006; PackageReference: MXA20A; PackageDescription: Molded TSSOP, Jedec, 6.5 x 4.4 x 0.9mm Body, 20 Lead, 0.65mm Pitch, Exposed Pad; RoHS: N; PinCount: 20; Code_JEDEC: MO-153-ACT; ComponentLink1Description: Manufacturer URL; ComponentLink1URL: http://www.national.com/; ComponentLink2Description: LM5005 Datasheet; ComponentLink2URL: http://www.national.com/ds/LM/LM5005.pdf; ComponentLink3Description: LM5005 Web Page; ComponentLink3URL: http://www.national.com/pf/LM/LM5005.html; ComponentLink4Description: MXA20A Package Page; ComponentLink4URL: http://www.national.com/packaging/folders/mxa20a.html
footprint MXA20A_N (TSOP, 20-Leads, Body 6.5x4.4mm, Pitch 0.65mm, Thermal Pad, IPC Medium Density)
footprint MXA20A_L (TSOP, 20-Leads, Body 6.5x4.4mm, Pitch 0.65mm, Thermal Pad, IPC High Density)
footprint MXA20A_M (TSOP, 20-Leads, Body 6.5x4.4mm, Pitch 0.65mm, Thermal Pad, IPC Low Density)
pins: 1 VCC (power), 2 SD (in), 3 VIN (power), 4 VIN (power), 5 SYNC (io), 6 COMP (out), 7 FB (in), 8 RT (in), 9 RAMP (in), 10 AGND (power), 11 SS (in), 12 OUT (out), 13 PGND (power), 14 PGND (power), 15 IS (in), 16 IS (in), 17 SW (power), 18 SW (power), 19 PRE (oc), 20 BST (in), 21 EP (power)

## LM5006MM/NOPB
designator U?
80V, 650 mA Constant On-Time Buck Switching Regulator, 10-pin Mini SOIC, 1000 Reel; PartNumber: LM5006MM/NOPB; Manufacturer: National Semiconductor; PackageTopMarking: ZXTT*SZLB; PowerWise: N; CompType: Switcher; High-Reliability: Y; DatasheetVersion: Feb-2011; PackageVersion: revB, Jul-2003; PackageReference: MUB10A; PackageDescription: Mini-SO, Molded, .118 x .118 x .034in Body, 10 Lead, .0197in Pitch; RoHS: Y; PinCount: 10; Code_JEDEC: MO-187-BA; ComponentLink1Description: Manufacturer URL; ComponentLink1URL: http://www.national.com/; ComponentLink2Description: LM5006 Datasheet; ComponentLink2URL: http://www.national.com/ds/LM/LM5006.pdf; ComponentLink3Description: LM5006 Web Page; ComponentLink3URL: http://www.national.com/pf/LM/LM5006.html; ComponentLink4Description: MUB10A Package Page; ComponentLink4URL: http://www.national.com/packaging/folders/mub10a.html
footprint MUB10A_N (TSSOP, 10-Leads, Body 3x3mm, Pitch 0.5mm, IPC Medium Density)
footprint MUB10A_L (TSSOP, 10-Leads, Body 3x3mm, Pitch 0.5mm, IPC High Density)
footprint MUB10A_M (TSSOP, 10-Leads, Body 3x3mm, Pitch 0.5mm, IPC Low Density)
pins: 1 SW (power), 2 BST (in), 3 LG (out), 4 RTN (power), 5 UV (in), 6 UVO (oc), 7 FB (in), 8 RT/SD (in), 9 VCC (power), 10 VIN (power)

## LM5006MMX/NOPB
designator U?
80V, 650 mA Constant On-Time Buck Switching Regulator, 10-pin Mini SOIC, 3500 Reel; PartNumber: LM5006MMX/NOPB; Manufacturer: National Semiconductor; PackageTopMarking: ZXTT*SZLB; PowerWise: N; CompType: Switcher; High-Reliability: Y; DatasheetVersion: Feb-2011; PackageVersion: revB, Jul-2003; PackageReference: MUB10A; PackageDescription: Mini-SO, Molded, .118 x .118 x .034in Body, 10 Lead, .0197in Pitch; RoHS: Y; PinCount: 10; Code_JEDEC: MO-187-BA; ComponentLink1Description: Manufacturer URL; ComponentLink1URL: http://www.national.com/; ComponentLink2Description: LM5006 Datasheet; ComponentLink2URL: http://www.national.com/ds/LM/LM5006.pdf; ComponentLink3Description: LM5006 Web Page; ComponentLink3URL: http://www.national.com/pf/LM/LM5006.html; ComponentLink4Description: MUB10A Package Page; ComponentLink4URL: http://www.national.com/packaging/folders/mub10a.html
footprint MUB10A_N (TSSOP, 10-Leads, Body 3x3mm, Pitch 0.5mm, IPC Medium Density)
footprint MUB10A_L (TSSOP, 10-Leads, Body 3x3mm, Pitch 0.5mm, IPC High Density)
footprint MUB10A_M (TSSOP, 10-Leads, Body 3x3mm, Pitch 0.5mm, IPC Low Density)
pins: 1 SW (power), 2 BST (in), 3 LG (out), 4 RTN (power), 5 UV (in), 6 UVO (oc), 7 FB (in), 8 RT/SD (in), 9 VCC (power), 10 VIN (power)

## LM5007MM
designator U?
High Voltage (80V) Step Down Switching Regulator, 8-pin MSOP; PartNumber: LM5007MM; Manufacturer: National Semiconductor; PackageTopMarking: ZXTT*S81B; PowerWise: N; CompType: Switcher; High-Reliability: Y; DatasheetVersion: Feb-2008; PackageVersion: revF, Apr-2008; PackageReference: MUA08A; PackageDescription: MINI SOIC, .118 x .118 x .034in, 8 Lead, .0256in Pitch; RoHS: N; PinCount: 8; Code_JEDEC: MO-187-AA; ComponentLink1Description: Manufacturer URL; ComponentLink1URL: http://www.national.com/; ComponentLink2Description: LM5007 Datasheet; ComponentLink2URL: http://www.national.com/ds/LM/LM5007.pdf; ComponentLink3Description: LM5007 Web Page; ComponentLink3URL: http://www.national.com/pf/LM/LM5007.html; ComponentLink4Description: MUA08A Package Page; ComponentLink4URL: http://www.national.com/packaging/folders/mua08a.html
footprint MUA08A_N (TSOP, 8-Leads, Body 3x3mm, Pitch 0.65mm, IPC Medium Density)
footprint MUA08A_L (TSOP, 8-Leads, Body 3x3mm, Pitch 0.65mm, IPC High Density)
footprint MUA08A_M (TSOP, 8-Leads, Body 3x3mm, Pitch 0.65mm, IPC Low Density)
pins: 1 SW (power), 2 BST (in), 3 RCL (in), 4 RTN (power), 5 FB (in), 6 RON/SD (in), 7 VCC (power), 8 VIN (power)

## LM5007MM/NOPB
designator U?
High Voltage (80V) Step Down Switching Regulator, 8-pin MSOP, Pb-Free; PartNumber: LM5007MM/NOPB; Manufacturer: National Semiconductor; PackageTopMarking: ZXTT*S81B; PowerWise: N; CompType: Switcher; High-Reliability: Y; DatasheetVersion: Feb-2008; PackageVersion: revF, Apr-2008; PackageReference: MUA08A; PackageDescription: MINI SOIC, .118 x .118 x .034in, 8 Lead, .0256in Pitch; RoHS: Y; PinCount: 8; Code_JEDEC: MO-187-AA; ComponentLink1Description: Manufacturer URL; ComponentLink1URL: http://www.national.com/; ComponentLink2Description: LM5007 Datasheet; ComponentLink2URL: http://www.national.com/ds/LM/LM5007.pdf; ComponentLink3Description: LM5007 Web Page; ComponentLink3URL: http://www.national.com/pf/LM/LM5007.html; ComponentLink4Description: MUA08A Package Page; ComponentLink4URL: http://www.national.com/packaging/folders/mua08a.html
footprint MUA08A_N (TSOP, 8-Leads, Body 3x3mm, Pitch 0.65mm, IPC Medium Density)
footprint MUA08A_L (TSOP, 8-Leads, Body 3x3mm, Pitch 0.65mm, IPC High Density)
footprint MUA08A_M (TSOP, 8-Leads, Body 3x3mm, Pitch 0.65mm, IPC Low Density)
pins: 1 SW (power), 2 BST (in), 3 RCL (in), 4 RTN (power), 5 FB (in), 6 RON/SD (in), 7 VCC (power), 8 VIN (power)

## LM5007MMX
designator U?
High Voltage (80V) Step Down Switching Regulator, 8-pin MSOP; PartNumber: LM5007MMX; Manufacturer: National Semiconductor; PackageTopMarking: ZXTT*S81B; PowerWise: N; CompType: Switcher; High-Reliability: Y; DatasheetVersion: Feb-2008; PackageVersion: revF, Apr-2008; PackageReference: MUA08A; PackageDescription: MINI SOIC, .118 x .118 x .034in, 8 Lead, .0256in Pitch; RoHS: N; PinCount: 8; Code_JEDEC: MO-187-AA; ComponentLink1Description: Manufacturer URL; ComponentLink1URL: http://www.national.com/; ComponentLink2Description: LM5007 Datasheet; ComponentLink2URL: http://www.national.com/ds/LM/LM5007.pdf; ComponentLink3Description: LM5007 Web Page; ComponentLink3URL: http://www.national.com/pf/LM/LM5007.html; ComponentLink4Description: MUA08A Package Page; ComponentLink4URL: http://www.national.com/packaging/folders/mua08a.html
footprint MUA08A_N (TSOP, 8-Leads, Body 3x3mm, Pitch 0.65mm, IPC Medium Density)
footprint MUA08A_L (TSOP, 8-Leads, Body 3x3mm, Pitch 0.65mm, IPC High Density)
footprint MUA08A_M (TSOP, 8-Leads, Body 3x3mm, Pitch 0.65mm, IPC Low Density)
pins: 1 SW (power), 2 BST (in), 3 RCL (in), 4 RTN (power), 5 FB (in), 6 RON/SD (in), 7 VCC (power), 8 VIN (power)

## LM5007SD
designator U?
High Voltage (80V) Step Down Switching Regulator, 8-pin LLP; PartNumber: LM5007SD; Manufacturer: National Semiconductor; PackageTopMarking: NS*UZXYTT*L00031B; PowerWise: N; CompType: Switcher; High-Reliability: Y; DatasheetVersion: Feb-2008; PackageVersion: revA, Jun-2003; PackageReference: SDC08A; PackageDescription: LLP, Plastic, Dual, 4 x 4 x 0.8mm Body, 8 Lead, 0.8mm Pitch, No Pullback; RoHS: N; PinCount: 8; ComponentLink1Description: Manufacturer URL; ComponentLink1URL: http://www.national.com/; ComponentLink2Description: LM5007 Datasheet; ComponentLink2URL: http://www.national.com/ds/LM/LM5007.pdf; ComponentLink3Description: LM5007 Web Page; ComponentLink3URL: http://www.national.com/pf/LM/LM5007.html; ComponentLink4Description: SDC08A Package Page; ComponentLink4URL: http://www.national.com/packaging/folders/sdc08a.html
footprint SDC08A (SON, 8-Leads, Body 4x4mm, Pitch 0.8mm, NSC Recommended)
pins: 1 SW (power), 2 BST (in), 3 RCL (in), 4 RTN (power), 5 FB (in), 6 RON/SD (in), 7 VCC (power), 8 VIN (power), 9 EP (power)

## LM5007SD/NOPB
designator U?
High Voltage (80V) Step Down Switching Regulator, 8-pin LLP, Pb-Free; PartNumber: LM5007SD/NOPB; Manufacturer: National Semiconductor; PackageTopMarking: NS*UZXYTT*L00031B; PowerWise: N; CompType: Switcher; High-Reliability: Y; DatasheetVersion: Feb-2008; PackageVersion: revA, Jun-2003; PackageReference: SDC08A; PackageDescription: LLP, Plastic, Dual, 4 x 4 x 0.8mm Body, 8 Lead, 0.8mm Pitch, No Pullback; RoHS: Y; PinCount: 8; ComponentLink1Description: Manufacturer URL; ComponentLink1URL: http://www.national.com/; ComponentLink2Description: LM5007 Datasheet; ComponentLink2URL: http://www.national.com/ds/LM/LM5007.pdf; ComponentLink3Description: LM5007 Web Page; ComponentLink3URL: http://www.national.com/pf/LM/LM5007.html; ComponentLink4Description: SDC08A Package Page; ComponentLink4URL: http://www.national.com/packaging/folders/sdc08a.html
footprint SDC08A (SON, 8-Leads, Body 4x4mm, Pitch 0.8mm, NSC Recommended)
pins: 1 SW (power), 2 BST (in), 3 RCL (in), 4 RTN (power), 5 FB (in), 6 RON/SD (in), 7 VCC (power), 8 VIN (power), 9 EP (power)

## LM5008AMM
designator U?
High Voltage (100V) Step Down Switching Regulator, 8-pin MSOP; PartNumber: LM5008AMM; Manufacturer: National Semiconductor; PackageTopMarking: ZXTT*SAYA; PowerWise: N; CompType: Switcher; High-Reliability: Y; DatasheetVersion: Jun-2009; PackageVersion: revF, Apr-2008; PackageReference: MUA08A; PackageDescription: MINI SOIC, .118 x .118 x .034in, 8 Lead, .0256in Pitch; RoHS: Y; PinCount: 8; Code_JEDEC: MO-187-AA; ComponentLink1Description: Manufacturer URL; ComponentLink1URL: http://www.national.com/; ComponentLink2Description: LM5008A Datasheet; ComponentLink2URL: http://www.national.com/ds/LM/LM5008A.pdf; ComponentLink3Description: LM5008A Web Page; ComponentLink3URL: http://www.national.com/pf/LM/LM5008A.html; ComponentLink4Description: MUA08A Package Page; ComponentLink4URL: http://www.national.com/packaging/folders/mua08a.html
footprint MUA08A_N (TSOP, 8-Leads, Body 3x3mm, Pitch 0.65mm, IPC Medium Density)
footprint MUA08A_L (TSOP, 8-Leads, Body 3x3mm, Pitch 0.65mm, IPC High Density)
footprint MUA08A_M (TSOP, 8-Leads, Body 3x3mm, Pitch 0.65mm, IPC Low Density)
pins: 1 SW (power), 2 BST (in), 3 RCL (in), 4 RTN (power), 5 FB (in), 6 RT/SD (in), 7 VCC (power), 8 VIN (power)

## LM5008AMM/NOPB
designator U?
100V, 350 mA Constant On-Time Buck Switching Regulator, 8-pin MSOP, Pb-Free; PartNumber: LM5008AMM/NOPB; Manufacturer: National Semiconductor; PackageTopMarking: ZXTT*SAYA; PowerWise: N; CompType: Switcher; High-Reliability: Y; DatasheetVersion: Jun-2009; PackageVersion: revF, Apr-2008; PackageReference: MUA08A; PackageDescription: MINI SOIC, .118 x .118 x .034in, 8 Lead, .0256in Pitch; RoHS: Y; PinCount: 8; Code_JEDEC: MO-187-AA; ComponentLink1Description: Manufacturer URL; ComponentLink1URL: http://www.national.com/; ComponentLink2Description: LM5008A Datasheet; ComponentLink2URL: http://www.national.com/ds/LM/LM5008A.pdf; ComponentLink3Description: LM5008A Web Page; ComponentLink3URL: http://www.national.com/pf/LM/LM5008A.html; ComponentLink4Description: MUA08A Package Page; ComponentLink4URL: http://www.national.com/packaging/folders/mua08a.html
footprint MUA08A_N (TSOP, 8-Leads, Body 3x3mm, Pitch 0.65mm, IPC Medium Density)
footprint MUA08A_L (TSOP, 8-Leads, Body 3x3mm, Pitch 0.65mm, IPC High Density)
footprint MUA08A_M (TSOP, 8-Leads, Body 3x3mm, Pitch 0.65mm, IPC Low Density)
pins: 1 SW (power), 2 BST (in), 3 RCL (in), 4 RTN (power), 5 FB (in), 6 RT/SD (in), 7 VCC (power), 8 VIN (power)

## LM5008AMMX/NOPB
designator U?
100V, 350 mA Constant On-Time Buck Switching Regulator, 8-pin MSOP, Pb-Free; PartNumber: LM5008AMMX/NOPB; Manufacturer: National Semiconductor; PackageTopMarking: ZXTT*SAYA; PowerWise: N; CompType: Switcher; High-Reliability: Y; DatasheetVersion: Jun-2009; PackageVersion: revF, Apr-2008; PackageReference: MUA08A; PackageDescription: MINI SOIC, .118 x .118 x .034in, 8 Lead, .0256in Pitch; RoHS: Y; PinCount: 8; Code_JEDEC: MO-187-AA; ComponentLink1Description: Manufacturer URL; ComponentLink1URL: http://www.national.com/; ComponentLink2Description: LM5008A Datasheet; ComponentLink2URL: http://www.national.com/ds/LM/LM5008A.pdf; ComponentLink3Description: LM5008A Web Page; ComponentLink3URL: http://www.national.com/pf/LM/LM5008A.html; ComponentLink4Description: MUA08A Package Page; ComponentLink4URL: http://www.national.com/packaging/folders/mua08a.html
footprint MUA08A_N (TSOP, 8-Leads, Body 3x3mm, Pitch 0.65mm, IPC Medium Density)
footprint MUA08A_L (TSOP, 8-Leads, Body 3x3mm, Pitch 0.65mm, IPC High Density)
footprint MUA08A_M (TSOP, 8-Leads, Body 3x3mm, Pitch 0.65mm, IPC Low Density)
pins: 1 SW (power), 2 BST (in), 3 RCL (in), 4 RTN (power), 5 FB (in), 6 RT/SD (in), 7 VCC (power), 8 VIN (power)

## LM5008ASD
designator U?
High Voltage (100V) Step Down Switching Regulator, 8-pin LLP; PartNumber: LM5008ASD; Manufacturer: National Semiconductor; PackageTopMarking: NS*UZXYTT*L00070A; PowerWise: N; CompType: Switcher; High-Reliability: Y; DatasheetVersion: Jun-2009; PackageVersion: revA, Mar-2006; PackageReference: SDC08B; PackageDescription: LLP, Dual, 4 x 4 x 0.8mm Body, 8 Lead, 0.8mm Pitch, No Pullback, 1.98 x 3mm Exposed Pad; RoHS: Y; PinCount: 8; ComponentLink1Description: Manufacturer URL; ComponentLink1URL: http://www.national.com/; ComponentLink2Description: LM5008A Datasheet; ComponentLink2URL: http://www.national.com/ds/LM/LM5008A.pdf; ComponentLink3Description: LM5008A Web Page; ComponentLink3URL: http://www.national.com/pf/LM/LM5008A.html; ComponentLink4Description: SDC08B Package Page; ComponentLink4URL: http://www.national.com/packaging/folders/sdc08b.html
footprint SDC08B (SON, 8-Leads, Body 4x4mm, Pitch 0.8mm, NSC Recommended)
pins: 1 SW (power), 2 BST (in), 3 RCL (in), 4 RTN (power), 5 FB (in), 6 RT/SD (in), 7 VCC (power), 8 VIN (power), 9 EP (power)